# EAGLE library part AD210 (library DAC)
Precision, Wide Bandwidth 3-Port Isolation Amplifier Source: http://www.analog.com/static/imported-files/data_sheets/AD210.pdf
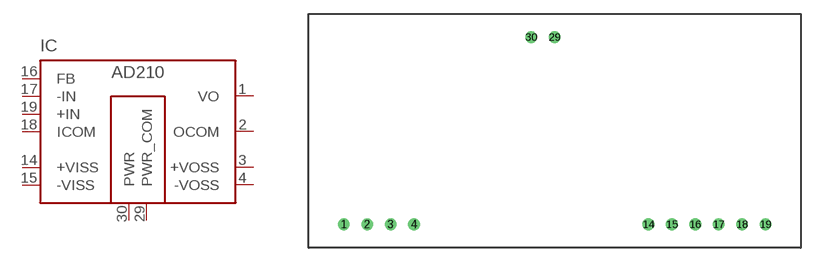
[diagram p82: symbol with the pads of AD210; footprint AD210]

Designator prefix IC

## AD210 (MF: ALTERA CORPORATION; MPN: AD210AN; OC_FARNELL: 3182034; OC_NEWARK: 05F6727)  [AD210]
1  VO  out
2  OCOM  out
3  +VOSS  out
4  -VOSS  out
14  +VISS  in
15  -VISS  in
16  FB  in
17  -IN  in
18  ICOM  in
19  +IN  in
29  PWR_COM  in
30  PWR  in

## Footprint AD210 (pad centres in mm)
Source: http://www.analog.com/static/imported-files/data_sheets/AD210.pdf
drill 0.7 pad 1.27: 1 -24.13,-10.16; 2 -21.59,-10.16; 3 -19.05,-10.16; 4 -16.51,-10.16; 14 8.89,-10.16; 15 11.43,-10.16; 16 13.97,-10.16; 17 16.51,-10.16; 18 19.05,-10.16; 19 21.59,-10.16; 29 -1.27,10.16; 30 -3.81,10.16